# Altium footprint library 接头-功率型插座.PcbLib: 5 footprints
Each footprint in its own frame and in the unit in brackets; x right, y up, seen from the top. Pads: shape width x height; smd on the part's side, far side on the other; paste and mask are expansions set on the pad; w line width, h text height; cw(c..) or ccw(c..) is an arc to the next point about the centre after c.
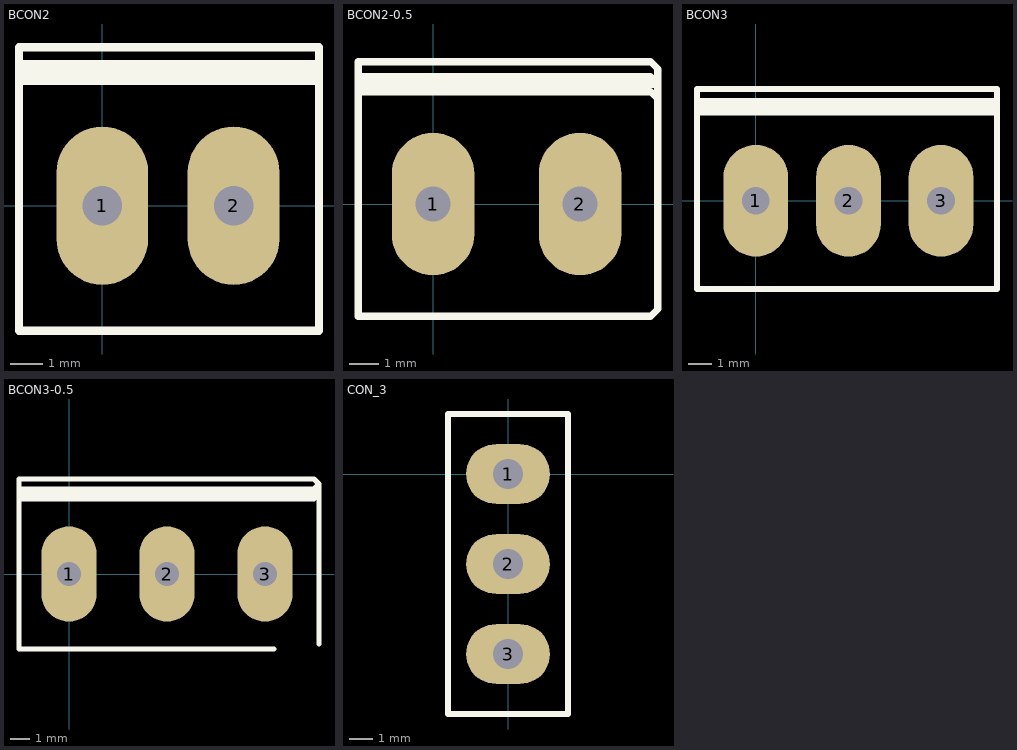
[diagram p0: the footprints below, top view; thin cyan lines are the x and y axes]

## BCON2 [mil]
pads (2):
  oval 110x190 hole 47.24: 1(0,0) 2(157.48,0)
TopOverlay:
  lines w10: -100,160 260,160 ; -100,170 260,170 ; -100,150 -100,190 260,190 260,150 ; -100,150 260,150 ; -100,150 -100,-150 260,-150 260,150

## BCON2-0.5 [mil]
pads (2):
  oval 110x190 hole 47.24: 1(0,0) 2(196,0)
TopOverlay:
  lines w10: -100,160 260,160 300,160 ; -100,170 260,170 290,170 300,160 ; -100,150 -100,190 260,190 290,190 300,180 ; -100,150 -100,-150 260,-150 290,-150 300,-140 300,160 ; -100,150 260,150 290,150 300,140 ; 300,140 300,180 ; 300,140 300,160 ; 300,160 300,180

## BCON3 [mil]
pads (3):
  oval 110x190 hole 47.24: 1(0,0) 2(157.48,0) 3(314.96,0)
TopOverlay:
  lines w10: -100,160 410,160 ; -100,170 410,170 ; -100,150 -100,190 410,190 410,150 ; -100,150 410,150 ; -100,150 -100,-150 400,-150 410,-150 410,150

## BCON3-0.5 [mil]
pads (3):
  oval 110x190 hole 47.24: 1(0,0) 2(196,0) 3(392,0)
TopOverlay:
  lines w10: -100,160 410,160 500,160 ; -100,170 410,170 490,170 ; 410,-150 400,-150 -100,-150 -100,150 ; 494.46,174.46 500,180 ; 500,-140 500,160 ; -100,150 410,150 490,150 490,170 ; -100,150 -100,190 410,190 490,190 500,180 ; 490,170 500,180 ; 500,160 500,180

## CON_3 [mil]
pads (3):
  oval 140x100 hole 50: 1(0,0) 2(0,-150) 3(0,-300)
TopOverlay:
  lines w10: -100,-400 100,-400 100,100 -100,100 -100,-400